# EAGLE library part CON6 (library Conn - Rect - Headers,Male Pins - Jumpers)
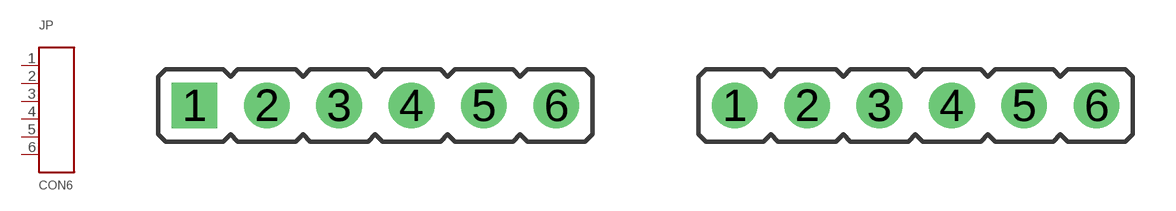
[diagram p0: symbol with the pads of 1X6; footprints 1X6, 1X6C]

Designator prefix JP

## CON6  [1X6]
1  P$1
2  P$2
3  P$3
4  P$4
5  P$5
6  P$6

## CON6C  [1X6C]
Pads as for 1X6

## Footprint 1X6 (pad centres in mm)
JUMPER
drill 1.067 square: 1 0,0
drill 1.067: 2 2.54,0; 3 5.08,0; 4 7.62,0; 5 10.16,0; 6 12.7,0

## Footprint 1X6C (pad centres in mm)
JUMPER
drill 1.067: 1 0,0; 2 2.54,0; 3 5.08,0; 4 7.62,0; 5 10.16,0; 6 12.7,0